# Altium footprint library 2021-07-12_23-30-13.PcbLib: 3 footprints
Each footprint in its own frame and in the unit in brackets; x right, y up, seen from the top. Pads: shape width x height; smd on the part's side, far side on the other; paste and mask are expansions set on the pad; w line width, h text height; cw(c..) or ccw(c..) is an arc to the next point about the centre after c.
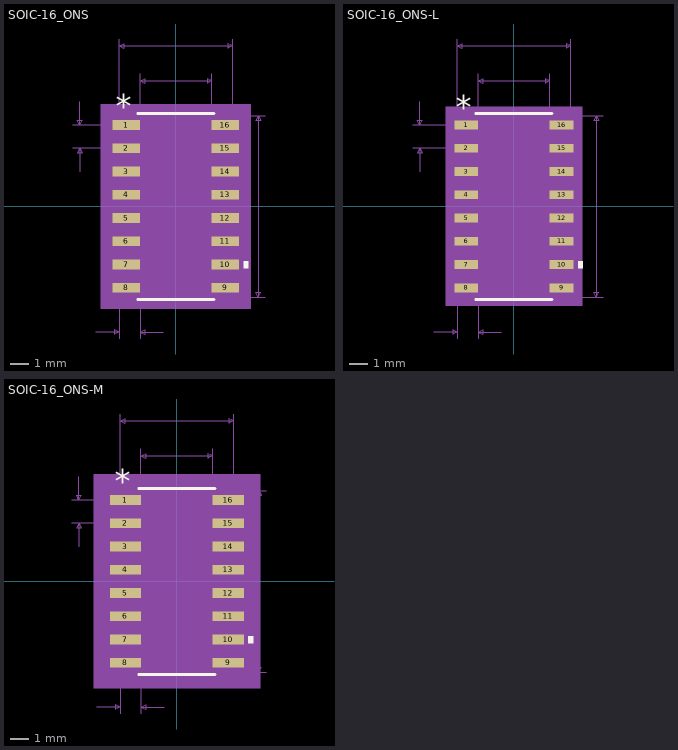
[diagram p0: the footprints below, top view; thin cyan lines are the x and y axes]

## SOIC-16_ONS [mil]
pads (16):
  rect 59x21 smd paste+0 mask+0: 1(-106.5,175) 2(-106.5,125) 3(-106.5,75) 4(-106.5,25) 5(-106.5,-25) 6(-106.5,-75) 7(-106.5,-125) 8(-106.5,-175) 9(106.5,-175) 10(106.5,-125) 11(106.5,-75) 12(106.5,-25) 13(106.5,25) 14(106.5,75) 15(106.5,125) 16(106.5,175)
Top Overlay:
  region: 146,-117.5 156,-117.5 156,-132.5 146,-132.5
  lines w6: -82,-200 82,-200 ; -82,200 82,200
  text "*" at -129,191 h50
Mechanical 5:
  region: 161,-220 -161,-220 -161,220 161,220
Mechanical 7:
  lines w1: -221.5,125 -106.5,125 ; -221.5,175 -106.5,175 ; -206.5,75 -206.5,125 ; -206.5,225 -206.5,175 ; -172,-270 -122,-270 ; -122,-285 -122,0 -122,360 ; -77,-285 -77,0 -77,285 ; -27,-270 -77,-270 ; 0,-195 192,-195 ; 0,195 192,195 ; 77,0 77,285 ; 122,0 122,360 ; -206.5,125 -211.5,115 -201.5,115 -206.5,125 ; -206.5,175 -211.5,185 -201.5,185 -206.5,175 ; -122,-270 -132,-265 -132,-275 -122,-270 ; -122,345 122,345 ; -122,345 -112,350 -112,340 -122,345 ; -77,-270 -67,-265 -67,-275 -77,-270 ; -77,270 77,270 ; -77,270 -67,275 -67,265 -77,270 ; 77,270 67,275 67,265 77,270 ; 122,345 112,350 112,340 122,345 ; 177,-195 177,195 ; 177,-195 172,-185 182,-185 177,-195 ; 177,195 172,185 182,185 177,195
  text "Default Padstyle: RX59Y21D0T" at -350,-395 h50
  text "Pin One Padstyle: RX59Y21D0T" at -350,-455 h50
  text "Alt 1 Padstyle: OX60Y90D30P" at -337.5,-635 h50
  text "Alt 2 Padstyle: OX90Y60D30P" at -337.5,-695 h50
  text "0.154in/3.912mm" at -93.75,290 h25
  text "0.244in/6.198mm" at -93.75,365 h25
  text "0.39in/9.906mm" at 197,-12.5 h25
  text "0.05in/1.27mm" at -389,137.5 h25
  text "0.049in/1.245mm" at -193.25,-315 h25
Mechanical 13:
  lines w0: -12,195 ccw(c0,195) 12,195
  lines w1: -122,-184.5 -122,-165.5 -77,-165.5 -77,-184.5 -122,-184.5 ; -122,-134.5 -122,-115.5 -77,-115.5 -77,-134.5 -122,-134.5 ; -122,-84.5 -122,-65.5 -77,-65.5 -77,-84.5 -122,-84.5 ; -122,-34.5 -122,-15.5 -77,-15.5 -77,-34.5 -122,-34.5 ; -122,15.5 -122,34.5 -77,34.5 -77,15.5 -122,15.5 ; -122,65.5 -122,84.5 -77,84.5 -77,65.5 -122,65.5 ; -122,115.5 -122,134.5 -77,134.5 -77,115.5 -122,115.5 ; -122,165.5 -122,184.5 -77,184.5 -77,165.5 -122,165.5 ; -77,-195 77,-195 77,195 -77,195 -77,-195 ; 77,-184.5 77,-165.5 122,-165.5 122,-184.5 77,-184.5 ; 77,-134.5 77,-115.5 122,-115.5 122,-134.5 77,-134.5 ; 77,-84.5 77,-65.5 122,-65.5 122,-84.5 77,-84.5 ; 77,-34.5 77,-15.5 122,-15.5 122,-34.5 77,-34.5 ; 77,15.5 77,34.5 122,34.5 122,15.5 77,15.5 ; 77,65.5 77,84.5 122,84.5 122,65.5 77,65.5 ; 77,115.5 77,134.5 122,134.5 122,115.5 77,115.5 ; 77,165.5 77,184.5 122,184.5 122,165.5 77,165.5
  text "*" at -74.5,142 h50
Mechanical 15:
  region: -87,-195.5 -146,-195.5 -146,195.5 -87,195.5 -87,205 87,205 87,195.5 146,195.5 146,-195.5 87,-195.5 87,-205 -87,-205
  lines w6: -146,-195.5 -146,195.5 -87,195.5 -87,205 87,205 87,195.5 146,195.5 146,-195.5 87,-195.5 87,-205 -87,-205 -87,-195.5 -146,-195.5
3D body: height 10, standoff 0, extent 0,0 10,10

## SOIC-16_ONS-L [mil]
pads (16):
  rect 51x19 smd paste+0 mask+0: 1(-102.5,175) 2(-102.5,125) 3(-102.5,75) 4(-102.5,25) 5(-102.5,-25) 6(-102.5,-75) 7(-102.5,-125) 8(-102.5,-175) 9(102.5,-175) 10(102.5,-125) 11(102.5,-75) 12(102.5,-25) 13(102.5,25) 14(102.5,75) 15(102.5,125) 16(102.5,175)
Top Overlay:
  region: 138,-117.5 148,-117.5 148,-132.5 138,-132.5
  lines w6: -82,-200 82,-200 ; -82,200 82,200
  text "*" at -125,189 h50
Mechanical 5:
  region: 147,-214 -147,-214 -147,214 147,214
Mechanical 7:
  lines w1: -217.5,125 -102.5,125 ; -217.5,175 -102.5,175 ; -202.5,75 -202.5,125 ; -202.5,225 -202.5,175 ; -172,-270 -122,-270 ; -122,-285 -122,0 -122,360 ; -77,-285 -77,0 -77,285 ; -27,-270 -77,-270 ; 0,-195 192,-195 ; 0,195 192,195 ; 77,0 77,285 ; 122,0 122,360 ; -202.5,125 -207.5,115 -197.5,115 -202.5,125 ; -202.5,175 -207.5,185 -197.5,185 -202.5,175 ; -122,-270 -132,-265 -132,-275 -122,-270 ; -122,345 122,345 ; -122,345 -112,350 -112,340 -122,345 ; -77,-270 -67,-265 -67,-275 -77,-270 ; -77,270 77,270 ; -77,270 -67,275 -67,265 -77,270 ; 77,270 67,275 67,265 77,270 ; 122,345 112,350 112,340 122,345 ; 177,-195 177,195 ; 177,-195 172,-185 182,-185 177,-195 ; 177,195 172,185 182,185 177,195
  text "Default Padstyle: RX51Y19D0T" at -350,-395 h50
  text "Pin One Padstyle: RX51Y19D0T" at -350,-455 h50
  text "Alt 1 Padstyle: OX60Y90D30P" at -337.5,-635 h50
  text "Alt 2 Padstyle: OX90Y60D30P" at -337.5,-695 h50
  text "0.154in/3.912mm" at -93.75,290 h25
  text "0.244in/6.198mm" at -93.75,365 h25
  text "0.39in/9.906mm" at 197,-12.5 h25
  text "0.05in/1.27mm" at -385,137.5 h25
  text "0.049in/1.245mm" at -193.25,-315 h25
Mechanical 13:
  lines w0: -12,195 ccw(c0,195) 12,195
  lines w1: -122,-184.5 -122,-165.5 -77,-165.5 -77,-184.5 -122,-184.5 ; -122,-134.5 -122,-115.5 -77,-115.5 -77,-134.5 -122,-134.5 ; -122,-84.5 -122,-65.5 -77,-65.5 -77,-84.5 -122,-84.5 ; -122,-34.5 -122,-15.5 -77,-15.5 -77,-34.5 -122,-34.5 ; -122,15.5 -122,34.5 -77,34.5 -77,15.5 -122,15.5 ; -122,65.5 -122,84.5 -77,84.5 -77,65.5 -122,65.5 ; -122,115.5 -122,134.5 -77,134.5 -77,115.5 -122,115.5 ; -122,165.5 -122,184.5 -77,184.5 -77,165.5 -122,165.5 ; -77,-195 77,-195 77,195 -77,195 -77,-195 ; 77,-184.5 77,-165.5 122,-165.5 122,-184.5 77,-184.5 ; 77,-134.5 77,-115.5 122,-115.5 122,-134.5 77,-134.5 ; 77,-84.5 77,-65.5 122,-65.5 122,-84.5 77,-84.5 ; 77,-34.5 77,-15.5 122,-15.5 122,-34.5 77,-34.5 ; 77,15.5 77,34.5 122,34.5 122,15.5 77,15.5 ; 77,65.5 77,84.5 122,84.5 122,65.5 77,65.5 ; 77,115.5 77,134.5 122,134.5 122,115.5 77,115.5 ; 77,165.5 77,184.5 122,184.5 122,165.5 77,165.5
  text "*" at -74.5,142 h50
Mechanical 15:
  region: -81,-188.5 -132,-188.5 -132,188.5 -81,188.5 -81,199 81,199 81,188.5 132,188.5 132,-188.5 81,-188.5 81,-199 -81,-199
  lines w6: -132,-188.5 -132,188.5 -81,188.5 -81,199 81,199 81,188.5 132,188.5 132,-188.5 81,-188.5 81,-199 -81,-199 -81,-188.5 -132,-188.5
3D body: height 10, standoff 0, extent 0,0 10,10

## SOIC-16_ONS-M [mil]
pads (16):
  rect 67x21 smd paste+0 mask+0: 1(-110.5,175) 2(-110.5,125) 3(-110.5,75) 4(-110.5,25) 5(-110.5,-25) 6(-110.5,-75) 7(-110.5,-125) 8(-110.5,-175) 9(110.5,-175) 10(110.5,-125) 11(110.5,-75) 12(110.5,-25) 13(110.5,25) 14(110.5,75) 15(110.5,125) 16(110.5,175)
Top Overlay:
  region: 154,-117.5 164,-117.5 164,-132.5 154,-132.5
  lines w6: -82,-200 82,-200 ; -82,200 82,200
  text "*" at -133,191 h50
Mechanical 5:
  region: 179,-230 -179,-230 -179,230 179,230
Mechanical 7:
  lines w1: -225.5,125 -110.5,125 ; -225.5,175 -110.5,175 ; -210.5,75 -210.5,125 ; -210.5,225 -210.5,175 ; -172,-270 -122,-270 ; -122,-285 -122,0 -122,360 ; -77,-285 -77,0 -77,285 ; -27,-270 -77,-270 ; 0,-195 192,-195 ; 0,195 192,195 ; 77,0 77,285 ; 122,0 122,360 ; -210.5,125 -215.5,115 -205.5,115 -210.5,125 ; -210.5,175 -215.5,185 -205.5,185 -210.5,175 ; -122,-270 -132,-265 -132,-275 -122,-270 ; -122,345 122,345 ; -122,345 -112,350 -112,340 -122,345 ; -77,-270 -67,-265 -67,-275 -77,-270 ; -77,270 77,270 ; -77,270 -67,275 -67,265 -77,270 ; 77,270 67,275 67,265 77,270 ; 122,345 112,350 112,340 122,345 ; 177,-195 177,195 ; 177,-195 172,-185 182,-185 177,-195 ; 177,195 172,185 182,185 177,195
  text "Default Padstyle: RX67Y21D0T" at -350,-395 h50
  text "Pin One Padstyle: RX67Y21D0T" at -350,-455 h50
  text "Alt 1 Padstyle: OX60Y90D30P" at -337.5,-635 h50
  text "Alt 2 Padstyle: OX90Y60D30P" at -337.5,-695 h50
  text "0.154in/3.912mm" at -93.75,290 h25
  text "0.244in/6.198mm" at -93.75,365 h25
  text "0.39in/9.906mm" at 197,-12.5 h25
  text "0.05in/1.27mm" at -393,137.5 h25
  text "0.049in/1.245mm" at -193.25,-315 h25
Mechanical 13:
  lines w0: -12,195 ccw(c0,195) 12,195
  lines w1: -122,-184.5 -122,-165.5 -77,-165.5 -77,-184.5 -122,-184.5 ; -122,-134.5 -122,-115.5 -77,-115.5 -77,-134.5 -122,-134.5 ; -122,-84.5 -122,-65.5 -77,-65.5 -77,-84.5 -122,-84.5 ; -122,-34.5 -122,-15.5 -77,-15.5 -77,-34.5 -122,-34.5 ; -122,15.5 -122,34.5 -77,34.5 -77,15.5 -122,15.5 ; -122,65.5 -122,84.5 -77,84.5 -77,65.5 -122,65.5 ; -122,115.5 -122,134.5 -77,134.5 -77,115.5 -122,115.5 ; -122,165.5 -122,184.5 -77,184.5 -77,165.5 -122,165.5 ; -77,-195 77,-195 77,195 -77,195 -77,-195 ; 77,-184.5 77,-165.5 122,-165.5 122,-184.5 77,-184.5 ; 77,-134.5 77,-115.5 122,-115.5 122,-134.5 77,-134.5 ; 77,-84.5 77,-65.5 122,-65.5 122,-84.5 77,-84.5 ; 77,-34.5 77,-15.5 122,-15.5 122,-34.5 77,-34.5 ; 77,15.5 77,34.5 122,34.5 122,15.5 77,15.5 ; 77,65.5 77,84.5 122,84.5 122,65.5 77,65.5 ; 77,115.5 77,134.5 122,134.5 122,115.5 77,115.5 ; 77,165.5 77,184.5 122,184.5 122,165.5 77,165.5
  text "*" at -74.5,142 h50
Mechanical 15:
  region: -97,-205.5 -164,-205.5 -164,205.5 -97,205.5 -97,215 97,215 97,205.5 164,205.5 164,-205.5 97,-205.5 97,-215 -97,-215
  lines w6: -164,-205.5 -164,205.5 -97,205.5 -97,215 97,215 97,205.5 164,205.5 164,-205.5 97,-205.5 97,-215 -97,-215 -97,-205.5 -164,-205.5
3D body: height 10, standoff 0, extent 0,0 10,10